# EAGLE library part 3048/52F_FOR_SECOND_BOARD_2 (library 180118 Library by matsu)
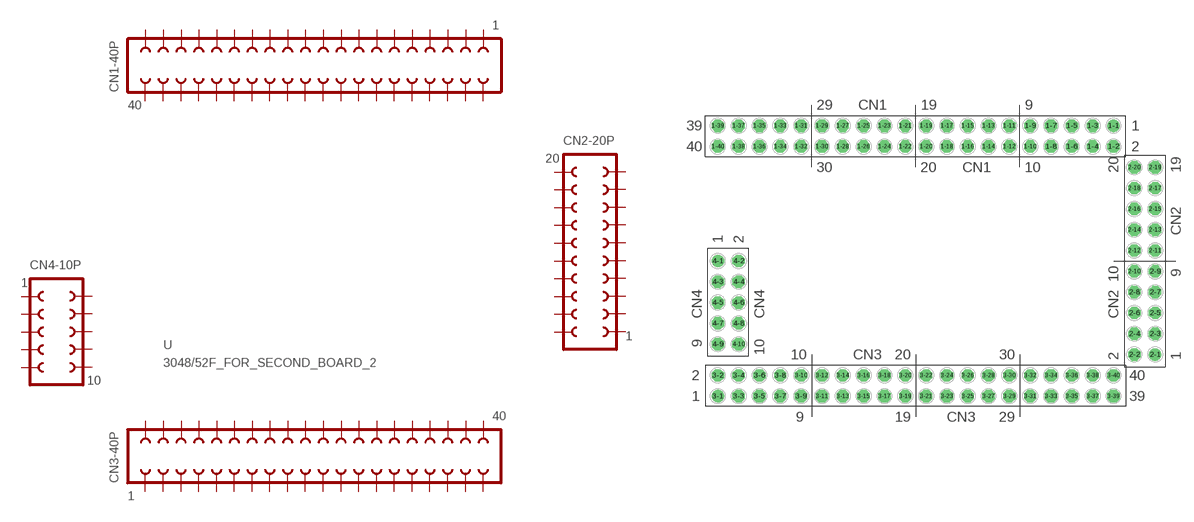
[diagram p20: symbol with the pads of 3048/52F_FOR_SECOND_BOARD_2; footprint 3048/52F_FOR_SECOND_BOARD_2]

Designator prefix -

## 3048/52F_FOR_SECOND_BOARD_2  [3048/52F_FOR_SECOND_BOARD_2]
1-1  1-1
1-2  1-2
1-3  1-3
1-4  1-4
1-5  1-5
1-6  1-6
1-7  1-7
1-8  1-8
1-9  1-9
1-10  1-10
1-11  1-11
1-12  1-12
1-13  1-13
1-14  1-14
1-15  1-15
1-16  1-16
1-17  1-17
1-18  1-18
1-19  1-19
1-20  1-20
1-21  1-21
1-22  1-22
1-23  1-23
1-24  1-24
1-25  1-25
1-26  1-26
1-27  1-27
1-28  1-28
1-29  1-29
1-30  1-30
1-31  1-31
1-32  1-32
1-33  1-33
1-34  1-34
1-35  1-35
1-36  1-36
1-37  1-37
1-38  1-38
1-39  1-39
1-40  1-40
2-1  2-1
2-2  2-2
2-3  2-3
2-4  2-4
2-5  2-5
2-6  2-6
2-7  2-7
2-8  2-8
2-9  2-9
2-10  2-10
2-11  2-11
2-12  2-12
2-13  2-13
2-14  2-14
2-15  2-15
2-16  2-16
2-17  2-17
2-18  2-18
2-19  2-19
2-20  2-20
3-1  3-1
3-2  3-2
3-3  3-3
3-4  3-4
3-5  3-5
3-6  3-6
3-7  3-7
3-8  3-8
3-9  3-9
3-10  3-10
3-11  3-11
3-12  3-12
3-13  3-13
3-14  3-14
3-15  3-15
3-16  3-16
3-17  3-17
3-18  3-18
3-19  3-19
3-20  3-20
3-21  3-21
3-22  3-22
3-23  3-23
3-24  3-24
3-25  3-25
3-26  3-26
3-27  3-27
3-28  3-28
3-29  3-29
3-30  3-30
3-31  3-31
3-32  3-32
3-33  3-33
3-34  3-34
3-35  3-35
3-36  3-36
3-37  3-37
3-38  3-38
3-39  3-39
3-40  3-40
4-1  4-1
4-2  4-2
4-3  4-3
4-4  4-4
4-5  4-5
4-6  4-6
4-7  4-7
4-8  4-8
4-9  4-9
4-10  4-10

## Footprint 3048/52F_FOR_SECOND_BOARD_2 (pad centres in mm)
drill 1: 1-1 22.86,16.51; 2-1 27.94,-11.43; 3-1 -25.4,-16.51; 4-1 -25.4,0
drill 1 octagon: 1-2 22.86,13.97; 1-3 20.32,16.51; 1-4 20.32,13.97; 1-5 17.78,16.51; 1-6 17.78,13.97; 1-7 15.24,16.51; 1-8 15.24,13.97; 1-9 12.7,16.51; 1-10 12.7,13.97; 1-11 10.16,16.51; 1-12 10.16,13.97; 1-13 7.62,16.51; 1-14 7.62,13.97; 1-15 5.08,16.51; 1-16 5.08,13.97; 1-17 2.54,16.51; 1-18 2.54,13.97; 1-19 0,16.51; 1-20 0,13.97; 1-21 -2.54,16.51; 1-22 -2.54,13.97; 1-23 -5.08,16.51; 1-24 -5.08,13.97; 1-25 -7.62,16.51; 1-26 -7.62,13.97; 1-27 -10.16,16.51; 1-28 -10.16,13.97; 1-29 -12.7,16.51; 1-30 -12.7,13.97; 1-31 -15.24,16.51; 1-32 -15.24,13.97; 1-33 -17.78,16.51; 1-34 -17.78,13.97; 1-35 -20.32,16.51; 1-36 -20.32,13.97; 1-37 -22.86,16.51; 1-38 -22.86,13.97; 1-39 -25.4,16.51; 1-40 -25.4,13.97; 2-2 25.4,-11.43; 2-3 27.94,-8.89; 2-4 25.4,-8.89; 2-5 27.94,-6.35; 2-6 25.4,-6.35; 2-7 27.94,-3.81; 2-8 25.4,-3.81; 2-9 27.94,-1.27; 2-10 25.4,-1.27; 2-11 27.94,1.27; 2-12 25.4,1.27; 2-13 27.94,3.81; 2-14 25.4,3.81; 2-15 27.94,6.35; 2-16 25.4,6.35; 2-17 27.94,8.89; 2-18 25.4,8.89; 2-19 27.94,11.43; 2-20 25.4,11.43; 3-2 -25.4,-13.97; 3-3 -22.86,-16.51; 3-4 -22.86,-13.97; 3-5 -20.32,-16.51; 3-6 -20.32,-13.97; 3-7 -17.78,-16.51; 3-8 -17.78,-13.97; 3-9 -15.24,-16.51; 3-10 -15.24,-13.97; 3-11 -12.7,-16.51; 3-12 -12.7,-13.97; 3-13 -10.16,-16.51; 3-14 -10.16,-13.97; 3-15 -7.62,-16.51; 3-16 -7.62,-13.97; 3-17 -5.08,-16.51; 3-18 -5.08,-13.97; 3-19 -2.54,-16.51; 3-20 -2.54,-13.97; 3-21 0,-16.51; 3-22 0,-13.97; 3-23 2.54,-16.51; 3-24 2.54,-13.97; 3-25 5.08,-16.51; 3-26 5.08,-13.97; 3-27 7.62,-16.51; 3-28 7.62,-13.97; 3-29 10.16,-16.51; 3-30 10.16,-13.97; 3-31 12.7,-16.51; 3-32 12.7,-13.97; 3-33 15.24,-16.51; 3-34 15.24,-13.97; 3-35 17.78,-16.51; 3-36 17.78,-13.97; 3-37 20.32,-16.51; 3-38 20.32,-13.97; 3-39 22.86,-16.51; 3-40 22.86,-13.97; 4-2 -22.86,0; 4-3 -25.4,-2.54; 4-4 -22.86,-2.54; 4-5 -25.4,-5.08; 4-6 -22.86,-5.08; 4-7 -25.4,-7.62; 4-8 -22.86,-7.62; 4-9 -25.4,-10.16; 4-10 -22.86,-10.16